# EAGLE library part DM412 (library raveGear301)
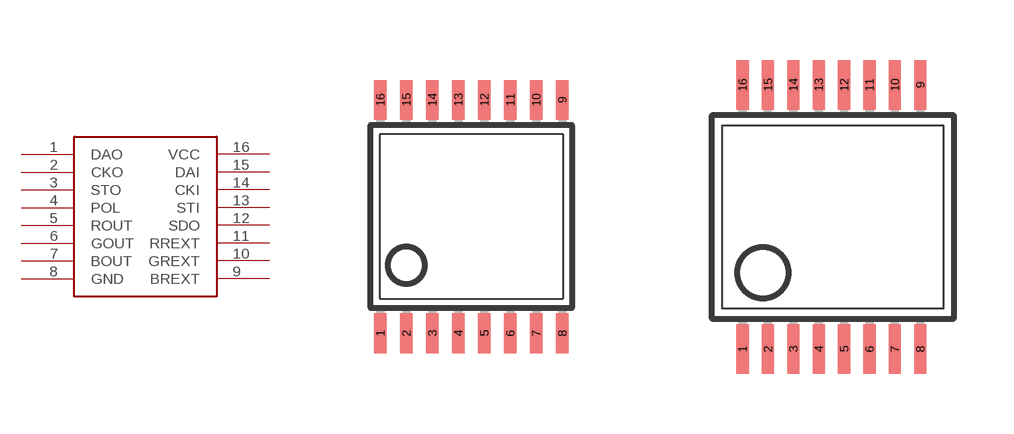
[diagram p1: symbol with the pads of TSSOP16; footprints TSSOP16, SSOP16]

Designator prefix U

## DM412  [TSSOP16]
1  DAO  out
2  CKO  out
3  STO  out
4  POL
5  ROUT
6  GOUT
7  BOUT
8  GND  pwr
9  BREXT
10  GREXT
11  RREXT
12  SDO
13  STI  in
14  CKI  in
15  DAI  in
16  VCC  pwr

## DM412BEST  [SSOP16]
Pads as for TSSOP16

## Footprint TSSOP16 (pad centres in mm)
Thin Shrink Small Outline Plastic 16 MAX3223-MAX3243.pdf
smd 0.305 x 0.991: 1 -2.275,-2.918; 2 -1.625,-2.918; 3 -0.975,-2.918; 4 -0.325,-2.918; 5 0.325,-2.918; 6 0.975,-2.918; 7 1.625,-2.918; 8 2.275,-2.918; 9 2.275,2.918; 10 1.625,2.918; 11 0.975,2.918; 12 0.325,2.918; 13 -0.325,2.918; 14 -0.975,2.918; 15 -1.625,2.918; 16 -2.275,2.918

## Footprint SSOP16 (pad centres in mm)
smd 0.305 x 1.245: 1 -2.857,-3.302; 2 -2.222,-3.302; 3 -1.587,-3.302; 4 -0.952,-3.302; 5 -0.317,-3.302; 6 0.318,-3.302; 7 0.953,-3.302; 8 1.588,-3.302; 9 1.588,3.302; 10 0.953,3.302; 11 0.318,3.302; 12 -0.317,3.302; 13 -0.952,3.302; 14 -1.587,3.302; 15 -2.222,3.302; 16 -2.857,3.302